# EAGLE library part 74*4245 (library bt_logic)
Tri State Octal Bus Transceiver and 3.3V to 5V Level Shifter This 8-bit (octal) noninverting bus transceiver contains two separate supply rails; B port has VCCB, which is set at 3.3 V, and A port has VCCA, which is set at 5 V. This allows for translation from a 3.3-V to a 5-V environment, and vice versa. Reference: <http://www.ti.com/lit/ds/symlink/sn74lvc4245a.pdf>
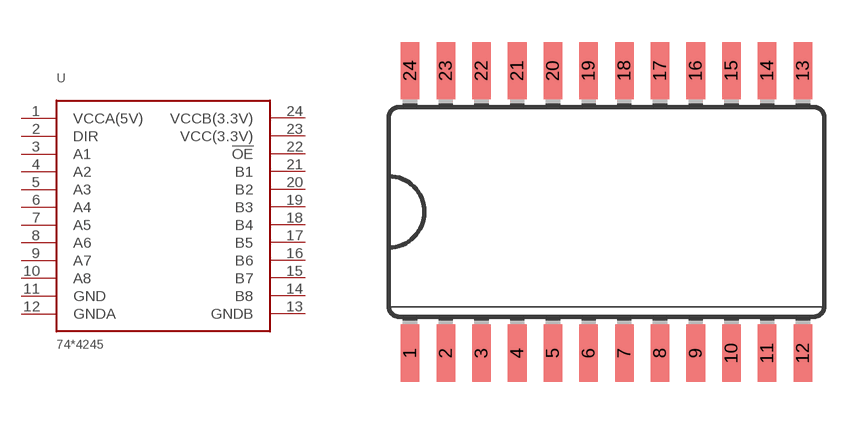
[diagram p0: symbol with the pads of SO24W; footprint SO24W]

Designator prefix -

## 744245  [SO24W]
1  VCCA(5V)
2  DIR
3  A1
4  A2
5  A3
6  A4
7  A5
8  A6
9  A7
10  A8
11  GND
12  GNDA
13  GNDB
14  B8
15  B7
16  B6
17  B5
18  B4
19  B3
20  B2
21  B1
22  !OE
23  VCC(3.3V)
24  VCCB(3.3V)

## Footprint SO24W (pad centres in mm)
Wide Small Outline package 300 mil
smd 0.66 x 2.032: 1 -6.985,-5.029; 2 -5.715,-5.029; 3 -4.445,-5.029; 4 -3.175,-5.029; 5 -1.905,-5.029; 6 -0.635,-5.029; 7 0.635,-5.029; 8 1.905,-5.029; 9 3.175,-5.029; 10 4.445,-5.029; 11 5.715,-5.029; 12 6.985,-5.029; 13 6.985,5.029; 14 5.715,5.029; 15 4.445,5.029; 16 3.175,5.029; 17 1.905,5.029; 18 0.635,5.029; 19 -0.635,5.029; 20 -1.905,5.029; 21 -3.175,5.029; 22 -4.445,5.029; 23 -5.715,5.029; 24 -6.985,5.029